# EAGLE library part S11B-XH-A (library jst-xh)
Wire-to-Board 2.5mm pitch side mount connector Source: http://www.jst-mfg.com/product/pdf/jpn/XH.pdf http://www.jst-mfg.com/product/detail.php?series=277
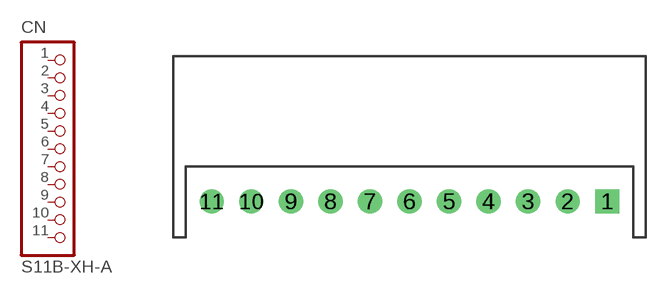
[diagram p17: symbol with the pads of S11B-XH-A; footprint S11B-XH-A]

Designator prefix CN

## S11B-XH-A  [S11B-XH-A]
1  1  pas
2  2  pas
3  3  pas
4  4  pas
5  5  pas
6  6  pas
7  7  pas
8  8  pas
9  9  pas
10  10  pas
11  11  pas

## Footprint S11B-XH-A (pad centres in mm)
drill 1.016 square: 1 12.5,0
drill 1.016: 2 10,0; 3 7.5,0; 4 5,0; 5 2.5,0; 6 0,0; 7 -2.5,0; 8 -5,0; 9 -7.5,0; 10 -10,0; 11 -12.5,0